# EAGLE library part WE-EPLE (library Wurth_Signal & Communications_WE-EPLE)
WE-EPLE USB 2.0 A Connector Characteristics USB 2.0 High Speed up to 480 MBit/s ESD Protection of data channels and VDD Common Mode Noise Rejection VDD Differential Mode Noise Rejection Common Mode Dämpfung der Datenleitungen Provides ESD protection for each channel to IEC 61000-4-2 (ESD) ±15 kV (air), ±8 kV (contact) IEC 61000-4-4 (EFT) (5/50 ns) 20 A (I/O), 40 A VDD IEC 61000-4-5 (Lightning) 6 A (8/20 µs) Ultra low capacitance: 2 pF typical Fast turn on and low clamping voltage Applications Circuit protection plus EMI noise reduction without additional redesign Compliant for most USB applications Applications with extremely small space The Complete USB 2.0 EMI & ESD Solution <https://katalog.we-online.com/media/images/v2/o14776v209%20Family_WE-EPLE_USB2.jpg> Details see: https://katalog.we-online.com/en/pbs/WE-EPLE_SIZE Updated by Ella Wu 2019-08-20 2019 (C) Wurth Elektronik
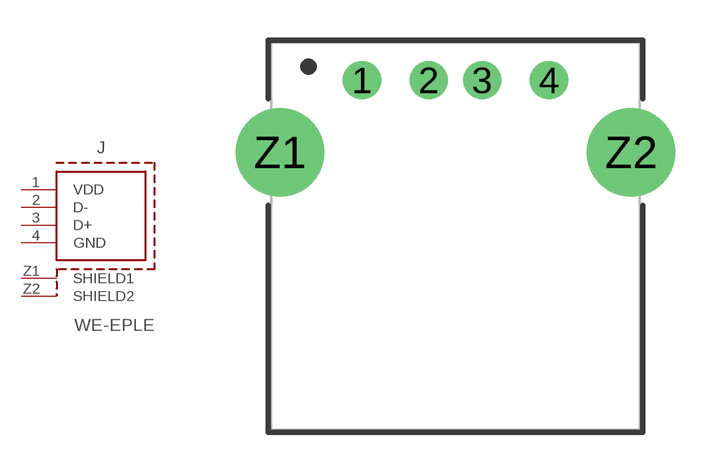
[diagram p0: symbol with the pads of WE-EPLE_8492121; footprint WE-EPLE_8492121]

Designator prefix J

## WE-EPLE_8492121 (DATASHEET-URL: https://katalog.we-online.com/pbs/datasheet/8492121.pdf; IR: 1A; IR1: 0.33A; PART-NUMBER: 8492121; PORTS: 1; RDC: 200mOhm; RDC1: 350mOhm; VBR: 6V; VDC: 5V; Z: 100Ohm)  [WE-EPLE_8492121]
1  VDD  pas
2  D-  pas
3  D+  pas
4  GND  pas
Z1  SHIELD1  pwr
Z2  SHIELD2  pwr

## Footprint WE-EPLE_8492121 (pad centres in mm)
WE-EPLE USB 2.0 A Connector
drill 0.92: 1 -3.5,2.7; 2 -1,2.7; 3 1,2.7; 4 3.5,2.7
drill 2.3: Z1 -6.57,0; Z2 6.57,0